# EAGLE library part F280025CPMSR (library F280025CPMSR)
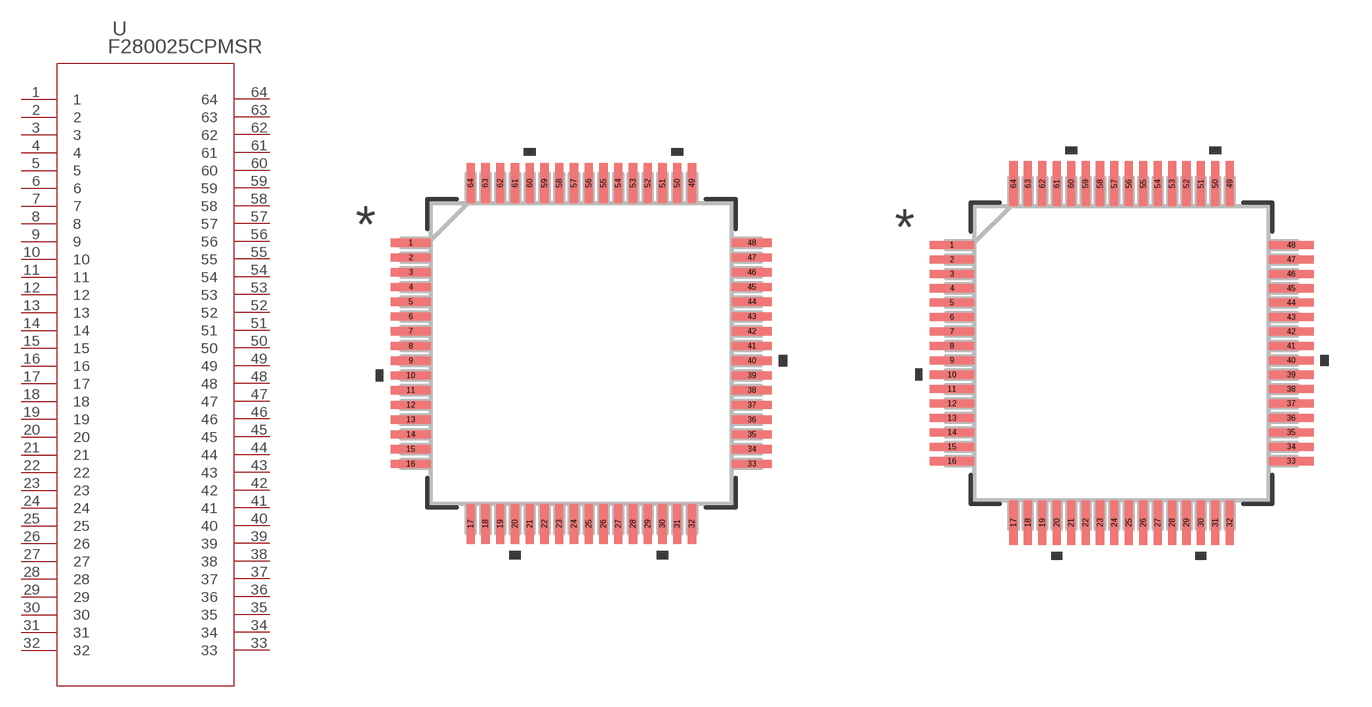
[diagram p0: symbol with the pads of IC64_F280025CPMSR_TEX; footprints IC64_F280025CPMSR_TEX, IC64_F280025CPMSR_TEX-M]

Designator prefix U

## F280025CPMSRIC64_F280025CPMSR_TEX (Copyright: Copyright (C) 2024 Ultra Librarian. All rights reserved.; Manufacturer_Part_Number: F280025CPMSR; Mfr_Name: Texas Instruments)  [IC64_F280025CPMSR_TEX]
1  1  pas
2  2  pas
3  3  pas
4  4  pas
5  5  pas
6  6  pas
7  7  pas
8  8  pas
9  9  pas
10  10  pas
11  11  pas
12  12  pas
13  13  pas
14  14  pas
15  15  pas
16  16  pas
17  17  pas
18  18  pas
19  19  pas
20  20  pas
21  21  pas
22  22  pas
23  23  pas
24  24  pas
25  25  pas
26  26  pas
27  27  pas
28  28  pas
29  29  pas
30  30  pas
31  31  pas
32  32  pas
33  33  pas
34  34  pas
35  35  pas
36  36  pas
37  37  pas
38  38  pas
39  39  pas
40  40  pas
41  41  pas
42  42  pas
43  43  pas
44  44  pas
45  45  pas
46  46  pas
47  47  pas
48  48  pas
49  49  pas
50  50  pas
51  51  pas
52  52  pas
53  53  pas
54  54  pas
55  55  pas
56  56  pas
57  57  pas
58  58  pas
59  59  pas
60  60  pas
61  61  pas
62  62  pas
63  63  pas
64  64  pas

## F280025CPMSRIC64_F280025CPMSR_TEX-M (Copyright: Copyright (C) 2024 Ultra Librarian. All rights reserved.; Manufacturer_Part_Number: F280025CPMSR; Mfr_Name: Texas Instruments)  [IC64_F280025CPMSR_TEX-M]
Pads as for IC64_F280025CPMSR_TEX

## F280025CPMSRIC64_F280025CPMSR_TEX-L (Copyright: Copyright (C) 2024 Ultra Librarian. All rights reserved.; Manufacturer_Part_Number: F280025CPMSR; Mfr_Name: Texas Instruments)  [IC64_F280025CPMSR_TEX-L]
Pads as for IC64_F280025CPMSR_TEX

## Footprint IC64_F280025CPMSR_TEX (pad centres in mm)
smd 1.35 x 0.279: 1 -5.78,3.75; 2 -5.78,3.25; 3 -5.78,2.75; 4 -5.78,2.25; 5 -5.78,1.75; 6 -5.78,1.25; 7 -5.78,0.75; 8 -5.78,0.25; 9 -5.78,-0.25; 10 -5.78,-0.75; 11 -5.78,-1.25; 12 -5.78,-1.75; 13 -5.78,-2.25; 14 -5.78,-2.75; 15 -5.78,-3.25; 16 -5.78,-3.75; 33 5.78,-3.75; 34 5.78,-3.25; 35 5.78,-2.75; 36 5.78,-2.25; 37 5.78,-1.75; 38 5.78,-1.25; 39 5.78,-0.75; 40 5.78,-0.25; 41 5.78,0.25; 42 5.78,0.75; 43 5.78,1.25; 44 5.78,1.75; 45 5.78,2.25; 46 5.78,2.75; 47 5.78,3.25; 48 5.78,3.75
smd 0.279 x 1.35: 17 -3.75,-5.78; 18 -3.25,-5.78; 19 -2.75,-5.78; 20 -2.25,-5.78; 21 -1.75,-5.78; 22 -1.25,-5.78; 23 -0.75,-5.78; 24 -0.25,-5.78; 25 0.25,-5.78; 26 0.75,-5.78; 27 1.25,-5.78; 28 1.75,-5.78; 29 2.25,-5.78; 30 2.75,-5.78; 31 3.25,-5.78; 32 3.75,-5.78; 49 3.75,5.78; 50 3.25,5.78; 51 2.75,5.78; 52 2.25,5.78; 53 1.75,5.78; 54 1.25,5.78; 55 0.75,5.78; 56 0.25,5.78; 57 -0.25,5.78; 58 -0.75,5.78; 59 -1.25,5.78; 60 -1.75,5.78; 61 -2.25,5.78; 62 -2.75,5.78; 63 -3.25,5.78; 64 -3.75,5.78

## Footprint IC64_F280025CPMSR_TEX-M (pad centres in mm)
smd 1.553 x 0.279: 1 -5.882,3.75; 2 -5.882,3.25; 3 -5.882,2.75; 4 -5.882,2.25; 5 -5.882,1.75; 6 -5.882,1.25; 7 -5.882,0.75; 8 -5.882,0.25; 9 -5.882,-0.25; 10 -5.882,-0.75; 11 -5.882,-1.25; 12 -5.882,-1.75; 13 -5.882,-2.25; 14 -5.882,-2.75; 15 -5.882,-3.25; 16 -5.882,-3.75; 33 5.882,-3.75; 34 5.882,-3.25; 35 5.882,-2.75; 36 5.882,-2.25; 37 5.882,-1.75; 38 5.882,-1.25; 39 5.882,-0.75; 40 5.882,-0.25; 41 5.882,0.25; 42 5.882,0.75; 43 5.882,1.25; 44 5.882,1.75; 45 5.882,2.25; 46 5.882,2.75; 47 5.882,3.25; 48 5.882,3.75
smd 0.279 x 1.553: 17 -3.75,-5.882; 18 -3.25,-5.882; 19 -2.75,-5.882; 20 -2.25,-5.882; 21 -1.75,-5.882; 22 -1.25,-5.882; 23 -0.75,-5.882; 24 -0.25,-5.882; 25 0.25,-5.882; 26 0.75,-5.882; 27 1.25,-5.882; 28 1.75,-5.882; 29 2.25,-5.882; 30 2.75,-5.882; 31 3.25,-5.882; 32 3.75,-5.882; 49 3.75,5.882; 50 3.25,5.882; 51 2.75,5.882; 52 2.25,5.882; 53 1.75,5.882; 54 1.25,5.882; 55 0.75,5.882; 56 0.25,5.882; 57 -0.25,5.882; 58 -0.75,5.882; 59 -1.25,5.882; 60 -1.75,5.882; 61 -2.25,5.882; 62 -2.75,5.882; 63 -3.25,5.882; 64 -3.75,5.882

## Footprint IC64_F280025CPMSR_TEX-L (pad centres in mm)
smd 1.147 x 0.229: 1 -5.679,3.75; 2 -5.679,3.25; 3 -5.679,2.75; 4 -5.679,2.25; 5 -5.679,1.75; 6 -5.679,1.25; 7 -5.679,0.75; 8 -5.679,0.25; 9 -5.679,-0.25; 10 -5.679,-0.75; 11 -5.679,-1.25; 12 -5.679,-1.75; 13 -5.679,-2.25; 14 -5.679,-2.75; 15 -5.679,-3.25; 16 -5.679,-3.75; 33 5.679,-3.75; 34 5.679,-3.25; 35 5.679,-2.75; 36 5.679,-2.25; 37 5.679,-1.75; 38 5.679,-1.25; 39 5.679,-0.75; 40 5.679,-0.25; 41 5.679,0.25; 42 5.679,0.75; 43 5.679,1.25; 44 5.679,1.75; 45 5.679,2.25; 46 5.679,2.75; 47 5.679,3.25; 48 5.679,3.75
smd 0.229 x 1.147: 17 -3.75,-5.679; 18 -3.25,-5.679; 19 -2.75,-5.679; 20 -2.25,-5.679; 21 -1.75,-5.679; 22 -1.25,-5.679; 23 -0.75,-5.679; 24 -0.25,-5.679; 25 0.25,-5.679; 26 0.75,-5.679; 27 1.25,-5.679; 28 1.75,-5.679; 29 2.25,-5.679; 30 2.75,-5.679; 31 3.25,-5.679; 32 3.75,-5.679; 49 3.75,5.679; 50 3.25,5.679; 51 2.75,5.679; 52 2.25,5.679; 53 1.75,5.679; 54 1.25,5.679; 55 0.75,5.679; 56 0.25,5.679; 57 -0.25,5.679; 58 -0.75,5.679; 59 -1.25,5.679; 60 -1.75,5.679; 61 -2.25,5.679; 62 -2.75,5.679; 63 -3.25,5.679; 64 -3.75,5.679